# EAGLE library part 61003221821 (library Wurth_Elektronik_Electromechanic_Board_to_Board_Connectors_rev16a)
WR-PHD 2.54mm Dual SMT Socket Header, 32 Pins=>Code : Con_BTB_SHD_2.54_1_SMT_61003221821 <http://katalog.we-online.de/media/images/eican/Con_BTB_SHD_2.54_1_SMT_6100xx21821_pf2.jpg> Details see: http://katalog.we-online.de/en/em/610_0xx_218_21 Created 2014-05-30, Karrer Zheng 2014 (C) Würth Elektronik
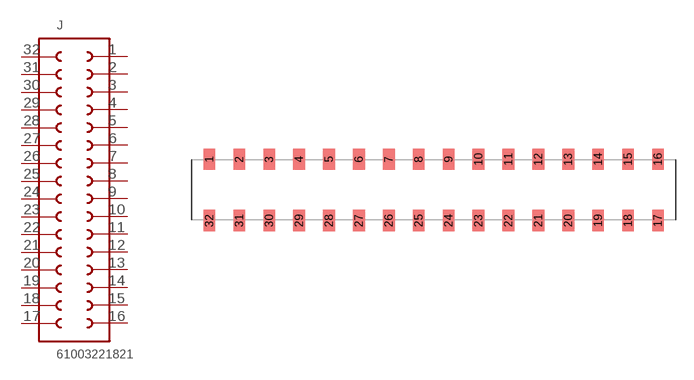
[diagram p225: symbol with the pads of 61003221821; footprint 61003221821]

Designator prefix J

## 61003221821  [61003221821]
1  1  pas
2  2  pas
3  3  pas
4  4  pas
5  5  pas
6  6  pas
7  7  pas
8  8  pas
9  9  pas
10  10  pas
11  11  pas
12  12  pas
13  13  pas
14  14  pas
15  15  pas
16  16  pas
17  17  pas
18  18  pas
19  19  pas
20  20  pas
21  21  pas
22  22  pas
23  23  pas
24  24  pas
25  25  pas
26  26  pas
27  27  pas
28  28  pas
29  29  pas
30  30  pas
31  31  pas
32  32  pas

## Footprint 61003221821 (pad centres in mm)
WR-PHD 2.54mm Dual SMT Socket Header, 32 Pins
smd 1 x 1.8: 1 -19.05,2.6; 2 -16.51,2.6; 3 -13.97,2.6; 4 -11.43,2.6; 5 -8.89,2.6; 6 -6.35,2.6; 7 -3.81,2.6; 8 -1.27,2.6; 9 1.27,2.6; 10 3.81,2.6; 11 6.35,2.6; 12 8.89,2.6; 13 11.43,2.6; 14 13.97,2.6; 15 16.51,2.6; 16 19.05,2.6; 17 19.05,-2.6; 18 16.51,-2.6; 19 13.97,-2.6; 20 11.43,-2.6; 21 8.89,-2.6; 22 6.35,-2.6; 23 3.81,-2.6; 24 1.27,-2.6; 25 -1.27,-2.6; 26 -3.81,-2.6; 27 -6.35,-2.6; 28 -8.89,-2.6; 29 -11.43,-2.6; 30 -13.97,-2.6; 31 -16.51,-2.6; 32 -19.05,-2.6